# Altium footprint library PcbLib1.PcbLib: 264 footprints (part 16 of 17)
Each footprint in its own frame and in the unit in brackets; x right, y up, seen from the top. Pads: shape width x height; smd on the part's side, far side on the other; paste and mask are expansions set on the pad; w line width, h text height; cw(c..) or ccw(c..) is an arc to the next point about the centre after c.
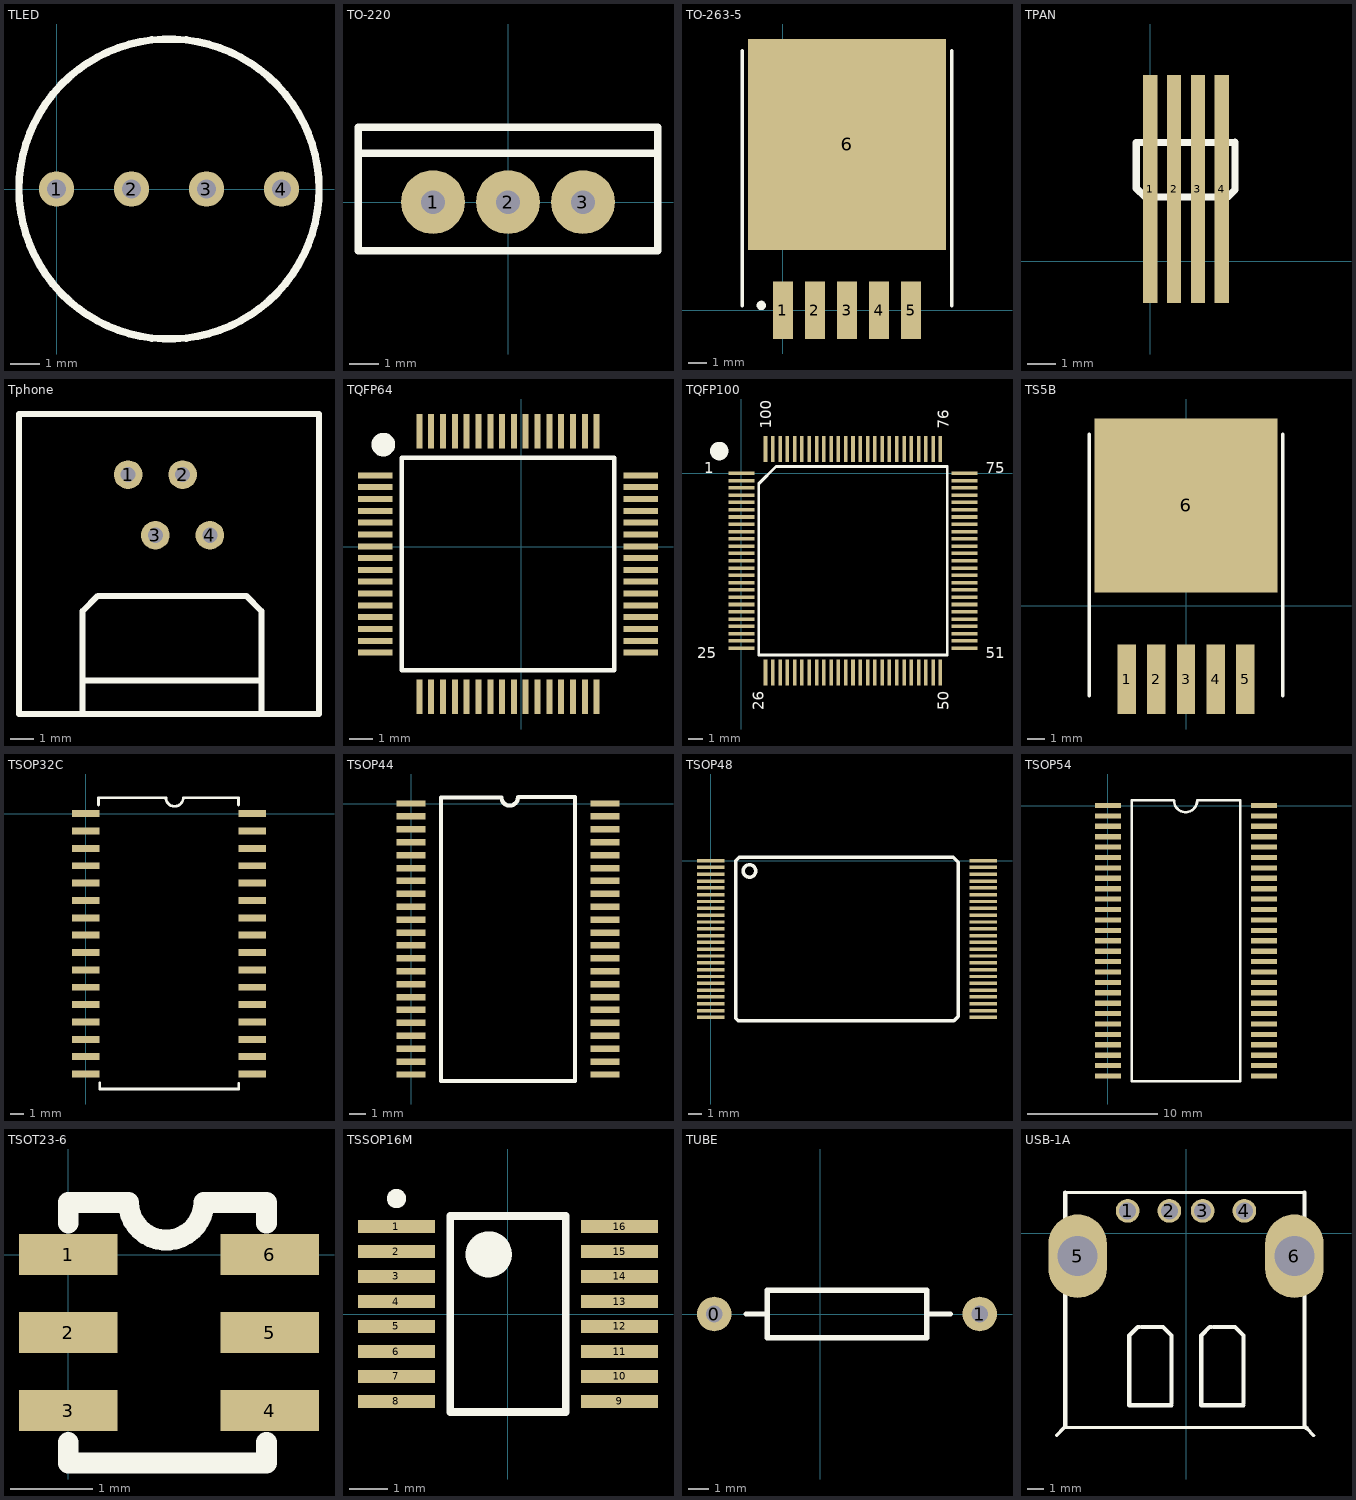
[diagram p15: the footprints below, top view; thin cyan lines are the x and y axes]

## TLED [mm] "LED"
height 10
pads (4):
  round 1.2 hole 0.635: 1(0,0) 2(2.54,0) 3(5.08,0) 4(7.62,0)
Top Overlay:
  circle w0.254: c3.81,0 r5.082

## TO-220 [mil] "TO-220"
height 1181.1
pads (3):
  round 85 hole 31.5: 1(-100,0) 2(0,0) 3(100,0)
Top Overlay:
  lines w10: -200,65 -200,100 200,100 200,65 ; -200,65 -200,-65 200,-65 200,65 ; -200,65 100,65 200,65

## TO-263-5 [mil]
height 47.24
pads (6):
  rect 42x120 smd: 1(0,0) 2(66.93,0) 3(133.86,0) 4(200.79,0) 5(267.72,0)
  rect 414x440 smd: 6(133.86,346)
Top Overlay:
  circle w9.84: c-44.92,10 r4.92
  lines w7.87: -84.65,10 -84.65,541.5 ; 352.36,10 352.36,541.5

## TPAN [mm] "TOUCH SCREEN"
pads (4):
  rect 0.5x8 smd: 1(0,2.54) 2(0.838,2.54) 3(1.676,2.54) 4(2.515,2.54)
Top Overlay:
  lines w0.254: -0.483,2.565 -0.178,2.261 2.718,2.261 2.972,2.515 2.972,4.191 2.946,4.166 -0.483,4.166 -0.483,2.565

## Tphone [mm] "Tphone"
height 13
pads (4):
  round 1.2 hole 0.635: 1(5.842,-5.08) 2(8.128,-5.08) 3(6.985,-7.62) 4(9.271,-7.62)
Top Overlay:
  lines w0.254: 3.937,-15.113 3.937,-10.795 4.572,-10.16 10.795,-10.16 11.43,-10.795 11.43,-15.113 ; 3.937,-13.716 11.43,-13.716 ; 12.192,-15.113 12.7,-15.113 ; 13.843,-12.446 13.843,-2.54 2.921,-2.54 1.27,-2.54 1.27,-12.446 1.27,-15.113 13.843,-15.113 13.843,-11.811

## TQFP64 [mm]
height 1
pads (64):
  rect 1.45x0.254 smd: 1(-6.184,3.013) 2(-6.184,2.513) 3(-6.184,2.013) 4(-6.184,1.513) 5(-6.184,1.013) 6(-6.184,0.513) 7(-6.184,0.013) 8(-6.184,-0.487) 9(-6.184,-0.987) 10(-6.184,-1.487) 11(-6.184,-1.987) 12(-6.184,-2.487) 13(-6.184,-2.987) 14(-6.184,-3.487) 15(-6.184,-3.987) 16(-6.184,-4.487) 33(5.066,-4.487) 34(5.066,-3.987) 35(5.066,-3.487) 36(5.066,-2.987) 37(5.066,-2.487) 38(5.066,-1.987) 39(5.066,-1.487) 40(5.066,-0.987) 41(5.066,-0.487) 42(5.066,0.013) 43(5.066,0.513) 44(5.066,1.013) 45(5.066,1.513) 46(5.066,2.013) 47(5.066,2.513) 48(5.066,3.013)
  rect 0.254x1.45 smd: 17(-4.309,-6.362) 18(-3.809,-6.362) 19(-3.309,-6.362) 20(-2.809,-6.362) 21(-2.309,-6.362) 22(-1.809,-6.362) 23(-1.309,-6.362) 24(-0.809,-6.362) 25(-0.309,-6.362) 26(0.191,-6.362) 27(0.691,-6.362) 28(1.191,-6.362) 29(1.691,-6.362) 30(2.191,-6.362) 31(2.691,-6.362) 32(3.191,-6.362) 49(3.191,4.888) 50(2.691,4.888) 51(2.191,4.888) 52(1.691,4.888) 53(1.191,4.888) 54(0.691,4.888) 55(0.191,4.888) 56(-0.309,4.888) 57(-0.809,4.888) 58(-1.309,4.888) 59(-1.809,4.888) 60(-2.309,4.888) 61(-2.809,4.888) 62(-3.309,4.888) 63(-3.809,4.888) 64(-4.309,4.888)
Top Overlay:
  circle w0.5: c-5.838,4.318 r0.25
  lines w0.2: -5.059,-5.237 -5.059,3.763 3.941,3.763 3.941,-5.237 -5.059,-5.237

## TQFP100 [mil]
pads (100):
  rect 70x9.5 smd: 1(0,0) 2(0,-19.68) 3(0,-39.37) 4(0,-59.05) 5(0,-78.74) 6(0,-98.42) 7(0,-118.11) 8(0,-137.79) 9(0,-157.48) 10(0,-177.16) 11(0,-196.85) 12(0,-216.53) 13(0,-236.22) 14(0,-255.91) 15(0,-275.59) 16(0,-295.27) 17(0,-314.96) 18(0,-334.64) 19(0,-354.33) 20(0,-374.01) 21(0,-393.7) 22(0,-413.38) 23(0,-433.07) 24(0,-452.75) 25(0,-472.44) 51(602.36,-472.44) 52(602.36,-452.75) 53(602.36,-433.07) 54(602.36,-413.38) 55(602.36,-393.7) 56(602.36,-374.01) 57(602.36,-354.33) 58(602.36,-334.64) 59(602.36,-314.96) 60(602.36,-295.27) 61(602.36,-275.59) 62(602.36,-255.91) 63(602.36,-236.22) 64(602.36,-216.53) 65(602.36,-196.85) 66(602.36,-177.16) 67(602.36,-157.48) 68(602.36,-137.79) 69(602.36,-118.11) 70(602.36,-98.42) 71(602.36,-78.74) 72(602.36,-59.05) 73(602.36,-39.37) 74(602.36,-19.68) 75(602.36,0)
  rect 9.5x70 smd: 26(64.96,-537.4) 27(84.65,-537.4) 28(104.33,-537.4) 29(124.02,-537.4) 30(143.7,-537.4) 31(163.39,-537.4) 32(183.07,-537.4) 33(202.76,-537.4) 34(222.44,-537.4) 35(242.13,-537.4) 36(261.81,-537.4) 37(281.5,-537.4) 38(301.18,-537.4) 39(320.87,-537.4) 40(340.55,-537.4) 41(360.24,-537.4) 42(379.92,-537.4) 43(399.61,-537.4) 44(419.29,-537.4) 45(438.98,-537.4) 46(458.66,-537.4) 47(478.35,-537.4) 48(498.03,-537.4) 49(517.72,-537.4) 50(537.4,-537.4) 76(537.4,64.96) 77(517.72,64.96) 78(498.03,64.96) 79(478.35,64.96) 80(458.66,64.96) 81(438.98,64.96) 82(419.29,64.96) 83(399.61,64.96) 84(379.92,64.96) 85(360.24,64.96) 86(340.55,64.96) 87(320.87,64.96) 88(301.18,64.96) 89(281.5,64.96) 90(261.81,64.96) 91(242.13,64.96) 92(222.44,64.96) 93(202.76,64.96) 94(183.07,64.96) 95(163.39,64.96) 96(143.7,64.96) 97(124.02,64.96) 98(104.33,64.96) 99(84.65,64.96) 100(64.96,64.96)
Top Overlay:
  circle w25: c-60,60 r12.5
  lines w7.87: 46.65,-490.75 46.65,-28.35 93.31,18.31 555.71,18.31 555.71,-490.75 46.65,-490.75
  text "1" at -100,0 h30
  text "25" at -120,-500 h30
  text "26" at 60,-640 h30
  text "50" at 560,-640 h30
  text "51" at 660,-500 h30
  text "75" at 660,0 h30
  text "76" at 560,120 h30
  text "100" at 80,120 h30

## TS5B [mm] "D2-PAK; 5 Leads; Body 14.4 (inc. leads) x 10.4 mm (LxW max)"
height 4.65
pads (6):
  rect 1.05x4 smd: 1(-3.4,-4.225) 2(-1.7,-4.225) 3(0,-4.225) 4(1.7,-4.225) 5(3.4,-4.225)
  rect 10.5x10 smd: 6(0,5.74)
Top Overlay:
  circle w0.25: c-3.4,-5.725 r0.125
  lines w0.2: -5.55,-5.175 -5.55,9.825 ; 5.55,-5.175 5.55,9.825

## TSOP32C [mil]
height 47.24
pads (32):
  rect 80x20 smd: 1(0,0) 2(0,-50) 3(0,-100) 4(0,-150) 5(0,-200) 6(0,-250) 7(0,-300) 8(0,-350) 9(0,-400) 10(0,-450) 11(0,-500) 12(0,-550) 13(0,-600) 14(0,-650) 15(0,-700) 16(0,-750) 17(480,-750) 18(480,-700) 19(480,-650) 20(480,-600) 21(480,-550) 22(480,-500) 23(480,-450) 24(480,-400) 25(480,-350) 26(480,-300) 27(480,-250) 28(480,-200) 29(480,-150) 30(480,-100) 31(480,-50) 32(480,0)
Top Overlay:
  lines w7.87: 40.87,-776 40.87,-793 440.94,-793 440.94,-777.47 ; 231,46 ccw(c256,46) 281,46
  lines w8: 37,25 37,46 231,46 ; 281,46 440,46 440,25

## TSOP44 [mm]
pads (44):
  rect 1.8x0.4 smd: 1(-0.009,0.001) 2(-0.009,-0.799) 3(-0.009,-1.599) 4(-0.009,-2.399) 5(-0.009,-3.199) 6(-0.009,-3.999) 7(-0.009,-4.799) 8(-0.009,-5.599) 9(-0.009,-6.399) 10(-0.009,-7.199) 11(-0.009,-7.999) 12(-0.009,-8.799) 13(-0.009,-9.599) 14(-0.009,-10.399) 15(-0.009,-11.199) 16(-0.009,-11.999) 17(-0.009,-12.799) 18(-0.009,-13.599) 19(-0.009,-14.399) 20(-0.009,-15.199) 21(-0.009,-15.999) 22(-0.009,-16.799) 23(11.991,-16.799) 24(11.991,-15.999) 25(11.991,-15.199) 26(11.991,-14.399) 27(11.991,-13.599) 28(11.991,-12.799) 29(11.991,-11.999) 30(11.991,-11.199) 31(11.991,-10.399) 32(11.991,-9.599) 33(11.991,-8.799) 34(11.991,-7.999) 35(11.991,-7.199) 36(11.991,-6.399) 37(11.991,-5.599) 38(11.991,-4.799) 39(11.991,-3.999) 40(11.991,-3.199) 41(11.991,-2.399) 42(11.991,-1.599) 43(11.991,-0.799) 44(11.991,0.001)
Top Overlay:
  lines w0.2: 1.826,-17.199 10.156,-17.199
  lines w0.254: 6.604,0.381 cw(c6.096,0.381) 5.588,0.381 1.846,0.381 1.846,-17.18 1.826,-17.199 10.156,-17.199 ; 6.624,0.401 10.156,0.401 10.156,-17.199 ; 10.156,-17.199 10.156,-17.199

## TSOP48 [mm]
height 0.8
pads (48):
  rect 2x0.25 smd: 1(0,0) 2(0,-0.5) 3(0,-1) 4(0,-1.5) 5(0,-2) 6(0,-2.5) 7(0,-3) 8(0,-3.5) 9(0,-4) 10(0,-4.5) 11(0,-5) 12(0,-5.5) 13(0,-6) 14(0,-6.5) 15(0,-7) 16(0,-7.5) 17(0,-8) 18(0,-8.5) 19(0,-9) 20(0,-9.5) 21(0,-10) 22(0,-10.5) 23(0,-11) 24(0,-11.5) 25(20,-11.5) 26(20,-11) 27(20,-10.5) 28(20,-10) 29(20,-9.5) 30(20,-9) 31(20,-8.5) 32(20,-8) 33(20,-7.5) 34(20,-7) 35(20,-6.5) 36(20,-6) 37(20,-5.5) 38(20,-5) 39(20,-4.5) 40(20,-4) 41(20,-3.5) 42(20,-3) 43(20,-2.5) 44(20,-2) 45(20,-1.5) 46(20,-1) 47(20,-0.5) 48(20,0)
Top Overlay:
  circle w0.254: c2.844,-0.762 r0.458
  lines w0.254: 9.271,0.25 10.795,0.25 ; 9.652,0.25 2.085,0.25 1.835,0 1.835,-11.553 2.032,-11.75 17.845,-11.75 18.165,-11.43 18.165,-0.135 17.78,0.25 10.668,0.25

## TSOP54 [mm]
pads (54):
  rect 2x0.4 smd: 1(0,0) 2(0,-0.8) 3(0,-1.6) 4(0,-2.4) 5(0,-3.2) 6(0,-4) 7(0,-4.8) 8(0,-5.6) 9(0,-6.4) 10(0,-7.2) 11(0,-8) 12(0,-8.8) 13(0,-9.6) 14(0,-10.4) 15(0,-11.2) 16(0,-12) 17(0,-12.8) 18(0,-13.6) 19(0,-14.4) 20(0,-15.2) 21(0,-16) 22(0,-16.8) 23(0,-17.6) 24(0,-18.4) 25(0,-19.2) 26(0,-20) 27(0,-20.8) 28(12,-20.8) 29(12,-20) 30(12,-19.2) 31(12,-18.4) 32(12,-17.6) 33(12,-16.8) 34(12,-16) 35(12,-15.2) 36(12,-14.4) 37(12,-13.6) 38(12,-12.8) 39(12,-12) 40(12,-11.2) 41(12,-10.4) 42(12,-9.6) 43(12,-8.8) 44(12,-8) 45(12,-7.2) 46(12,-6.4) 47(12,-5.6) 48(12,-4.8) 49(12,-4) 50(12,-3.2) 51(12,-2.4) 52(12,-1.6) 53(12,-0.8) 54(12,0)
Top Overlay:
  lines w0.2: 5.061,0.4 1.835,0.4 1.835,-21.2 10.165,-21.2 10.165,0.4 6.877,0.4 ; 5.08,0.381 ccw(c5.969,0.381) 6.858,0.381

## TSOT23-6 [mm]
height 1
pads (6):
  rect 1.2x0.5 smd: 1(0,0) 2(0,-0.95) 3(0,-1.9) 4(2.454,-1.9) 5(2.454,-0.95) 6(2.454,0)
Top Overlay:
  lines w0.254: 0,-2.286 0,-2.54 2.413,-2.54 2.413,-2.286 ; 0,0.381 0,0.635 0.735,0.635 ccw(c1.193,0.635) 1.651,0.635 2.413,0.635 2.413,0.381

## TSSOP16M [mm] "TSOP, 16-Leads, Body 5x4.4mm, Pitch 0.65mm, IPC Low Density"
height 1.1
pads (16):
  rect 2x0.35 smd: 1(-2.9,2.275) 2(-2.9,1.625) 3(-2.9,0.975) 4(-2.9,0.325) 5(-2.9,-0.325) 6(-2.9,-0.975) 7(-2.9,-1.625) 8(-2.9,-2.275) 9(2.9,-2.275) 10(2.9,-1.625) 11(2.9,-0.975) 12(2.9,-0.325) 13(2.9,0.325) 14(2.9,0.975) 15(2.9,1.625) 16(2.9,2.275)
Top Overlay:
  circle w0.25: c-2.9,3 r0.125
  circle w0.6: c-0.5,1.55 r0.3
  lines w0.2: -1.5,-2.55 -1.5,2.55 1.5,2.55 1.5,-2.55 -1.5,-2.55

## TUBE [mil] "YTUBE"
height 78.74
pads (2):
  round 65 hole 31.5: 0(-200,0) 1(300,0)
Top Overlay:
  lines w10: -140,0 -100,0 ; 200,0 245,0 ; -100,-45 200,-45 200,45 -100,45 -100,-45

## USB-1A [mm]
pads (6):
  round 1.422 hole 1.016: 1(-3.5,1.36) 2(-1,1.36) 3(1,1.36) 4(3.5,1.36)
  oval 3.5x5 hole 2.4: 5(-6.5,-1.36) 6(6.5,-1.36)
Top Overlay:
  lines w0.203: -7.772,-12.123 -7.29,-11.64 ; -7.239,2.46 7.112,2.46 ; 7.671,-12.123 7.239,-11.691 7.239,-11.64 -7.264,-11.64 ; -7.29,-11.64 -7.264,-11.64 ; -7.29,-11.64 -7.264,-11.64
  lines w0.254: -7.239,-11.615 -7.239,2.46 ; -2.771,-5.611 -2.898,-5.611 -3.406,-6.119 -3.406,-10.31 -0.866,-10.31 ; -2.644,-5.611 -1.374,-5.611 -0.866,-6.119 -0.866,-10.183 ; 1.547,-5.611 1.42,-5.611 0.912,-6.119 0.912,-10.31 3.452,-10.31 ; 1.674,-5.611 2.944,-5.611 3.452,-6.119 3.452,-10.183 ; 7.112,2.46 7.112,-11.564 7.239,-11.691